# EAGLE library part NES_CONN (library NES)
NES
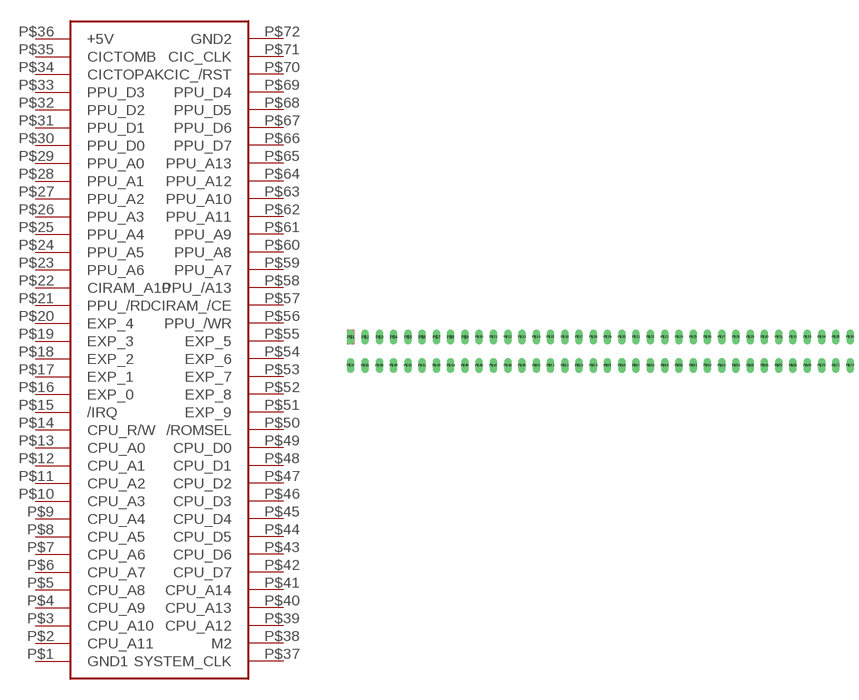
[diagram p0: symbol with the pads of 36X2; footprint 36X2]

Designator prefix -

## NES_CONN  [36X2]
P$1  GND1
P$2  CPU_A11
P$3  CPU_A10
P$4  CPU_A9
P$5  CPU_A8
P$6  CPU_A7
P$7  CPU_A6
P$8  CPU_A5
P$9  CPU_A4
P$10  CPU_A3
P$11  CPU_A2
P$12  CPU_A1
P$13  CPU_A0
P$14  CPU_R/W
P$15  /IRQ
P$16  EXP_0
P$17  EXP_1
P$18  EXP_2
P$19  EXP_3
P$20  EXP_4
P$21  PPU_/RD
P$22  CIRAM_A10
P$23  PPU_A6
P$24  PPU_A5
P$25  PPU_A4
P$26  PPU_A3
P$27  PPU_A2
P$28  PPU_A1
P$29  PPU_A0
P$30  PPU_D0
P$31  PPU_D1
P$32  PPU_D2
P$33  PPU_D3
P$34  CICTOPAK
P$35  CICTOMB
P$36  +5V
P$37  SYSTEM_CLK
P$38  M2
P$39  CPU_A12
P$40  CPU_A13
P$41  CPU_A14
P$42  CPU_D7
P$43  CPU_D6
P$44  CPU_D5
P$45  CPU_D4
P$46  CPU_D3
P$47  CPU_D2
P$48  CPU_D1
P$49  CPU_D0
P$50  /ROMSEL
P$51  EXP_9
P$52  EXP_8
P$53  EXP_7
P$54  EXP_6
P$55  EXP_5
P$56  PPU_/WR
P$57  CIRAM_/CE
P$58  PPU_/A13
P$59  PPU_A7
P$60  PPU_A8
P$61  PPU_A9
P$62  PPU_A11
P$63  PPU_A10
P$64  PPU_A12
P$65  PPU_A13
P$66  PPU_D7
P$67  PPU_D6
P$68  PPU_D5
P$69  PPU_D4
P$70  CIC_/RST
P$71  CIC_CLK
P$72  GND2

## Footprint 36X2 (pad centres in mm)
drill 0.8 long: P$1 -44.45,2.54; P$2 -41.91,2.54; P$3 -39.37,2.54; P$4 -36.83,2.54; P$5 -34.29,2.54; P$6 -31.75,2.54; P$7 -29.21,2.54; P$8 -26.67,2.54; P$9 -24.13,2.54; P$10 -21.59,2.54; P$11 -19.05,2.54; P$12 -16.51,2.54; P$13 -13.97,2.54; P$14 -11.43,2.54; P$15 -8.89,2.54; P$16 -6.35,2.54; P$17 -3.81,2.54; P$18 -1.27,2.54; P$19 1.27,2.54; P$20 3.81,2.54; P$21 6.35,2.54; P$22 8.89,2.54; P$23 11.43,2.54; P$24 13.97,2.54; P$25 16.51,2.54; P$26 19.05,2.54; P$27 21.59,2.54; P$28 24.13,2.54; P$29 26.67,2.54; P$30 29.21,2.54; P$31 31.75,2.54; P$32 34.29,2.54; P$33 36.83,2.54; P$34 39.37,2.54; P$35 41.91,2.54; P$36 44.45,2.54; P$37 -44.45,-2.54; P$38 -41.91,-2.54; P$39 -39.37,-2.54; P$40 -36.83,-2.54; P$41 -34.29,-2.54; P$42 -31.75,-2.54; P$43 -29.21,-2.54; P$44 -26.67,-2.54; P$45 -24.13,-2.54; P$46 -21.59,-2.54; P$47 -19.05,-2.54; P$48 -16.51,-2.54; P$49 -13.97,-2.54; P$50 -11.43,-2.54; P$51 -8.89,-2.54; P$52 -6.35,-2.54; P$53 -3.81,-2.54; P$54 -1.27,-2.54; P$55 1.27,-2.54; P$56 3.81,-2.54; P$57 6.35,-2.54; P$58 8.89,-2.54; P$59 11.43,-2.54; P$60 13.97,-2.54; P$61 16.51,-2.54; P$62 19.05,-2.54; P$63 21.59,-2.54; P$64 24.13,-2.54; P$65 26.67,-2.54; P$66 29.21,-2.54; P$67 31.75,-2.54; P$68 34.29,-2.54; P$69 36.83,-2.54; P$70 39.37,-2.54; P$71 41.91,-2.54; P$72 44.45,-2.54